# Altium footprint library PCB_Clock_STM8.PcbLib: 21 footprints (part 1 of 2)
Each footprint in its own frame and in the unit in brackets; x right, y up, seen from the top. Pads: shape width x height; smd on the part's side, far side on the other; paste and mask are expansions set on the pad; w line width, h text height; cw(c..) or ccw(c..) is an arc to the next point about the centre after c.
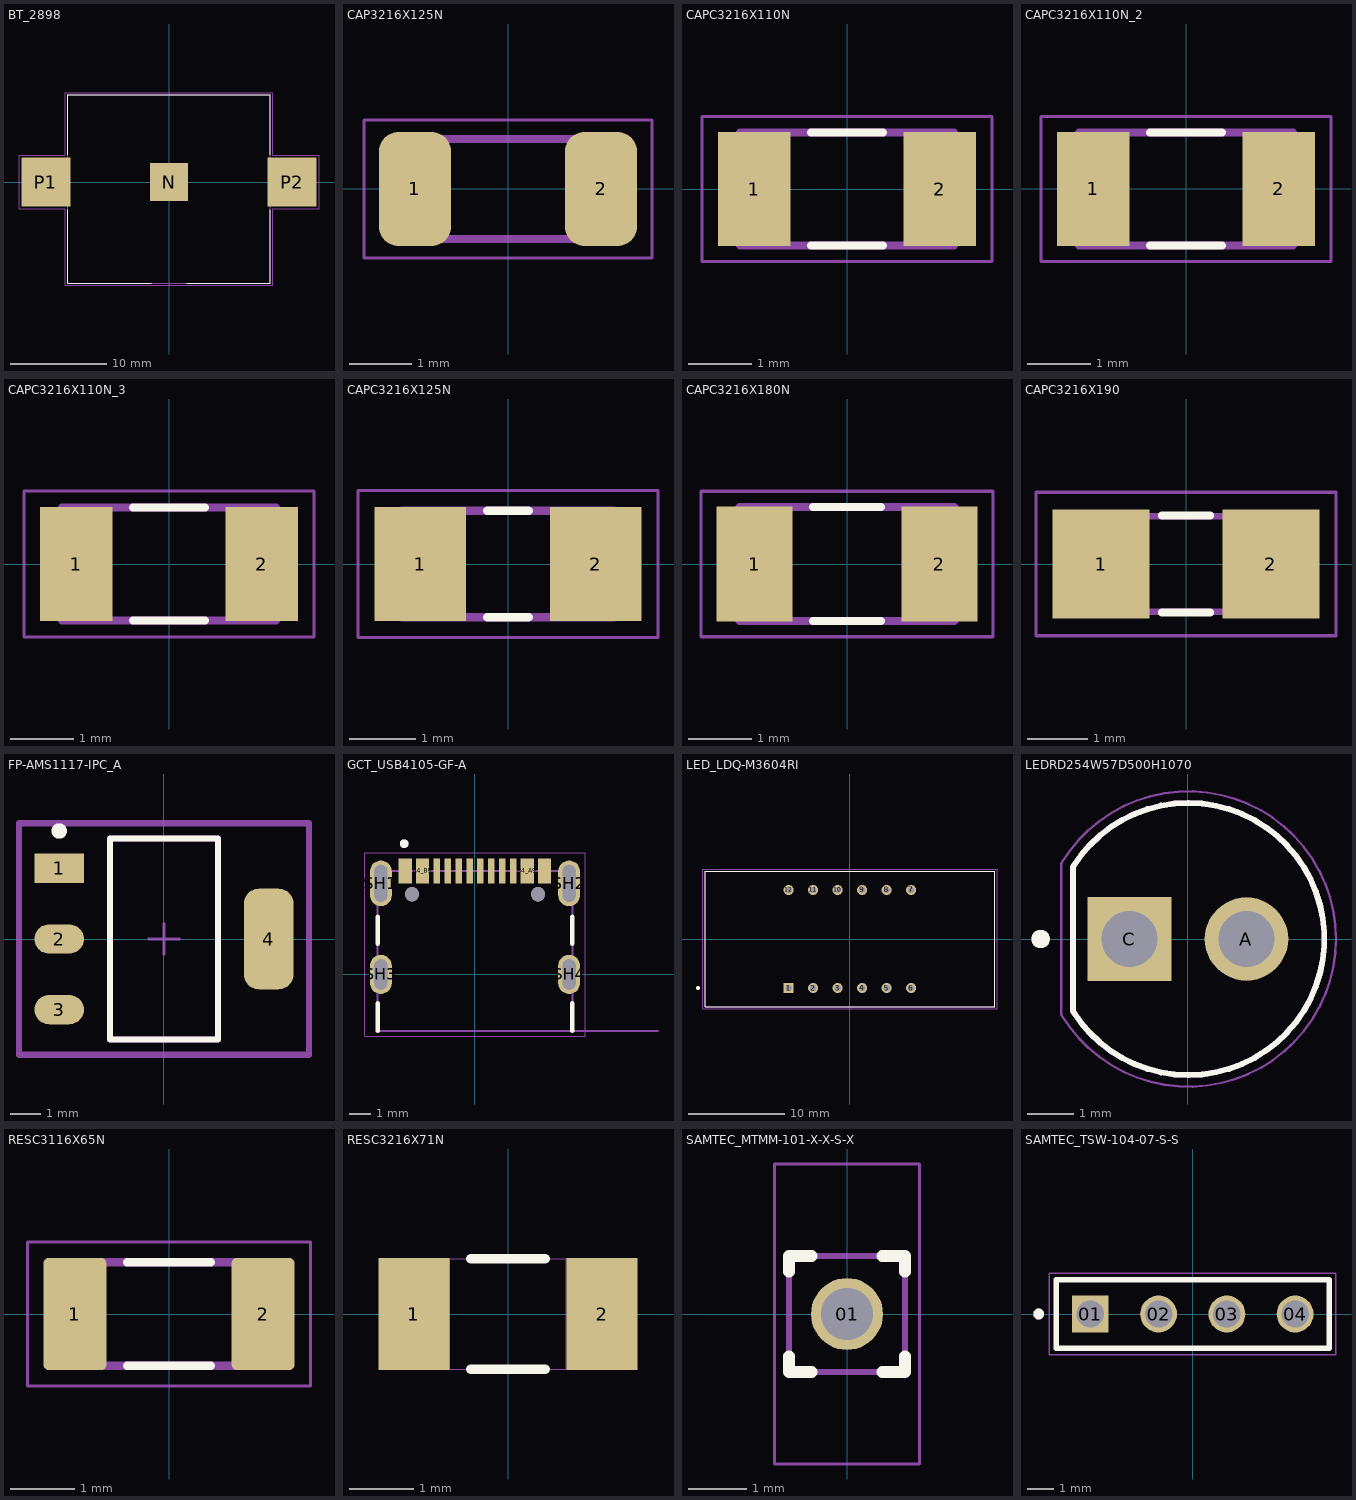
[diagram p0: the footprints below, top view; thin cyan lines are the x and y axes]

## BT_2898 [mm]
pads (3):
  rect 3.96x3.96 smd paste-3: N(0,0)
  rect 5.1x5.1 smd: P1(-12.815,0) P2(12.815,0)
Top Overlay:
  lines w0.127: -10.54,-2.87 -10.54,-10.51 -1.87,-10.51 ; -10.54,2.87 -10.54,9.07 10.54,9.07 10.54,2.87 ; 1.87,-10.51 10.54,-10.51 10.54,-2.87
Mechanical 13:
  lines w0.127: -10.54,-10.51 10.54,-10.51 10.54,9.07 -10.54,9.07 -10.54,-10.51
Mechanical 15:
  lines w0.05: -15.615,-2.8 -15.615,2.8 -10.79,2.8 -10.79,9.32 10.79,9.32 10.79,2.8 15.615,2.8 15.615,-2.8 10.79,-2.8 10.79,-10.76 -10.79,-10.76 -10.79,-2.8 -15.615,-2.8
3D body "2898--3DModel-STEP-630548.STEP": height 3.61, standoff 0.15, extent -15.367,-10.56 15.367,9.017

## CAP3216X125N [mm]
pads (2):
  rrect54% 1.15x1.82 smd: 1(-1.485,0) 2(1.485,0)
Mechanical 13:
  lines w0.127: -1.6,-0.8 -1.6,0.8 1.6,0.8 1.6,-0.8 -1.6,-0.8
Mechanical 15:
  lines w0.05: -2.3,-1.1 -2.3,1.1 2.3,1.1 2.3,-1.1 -2.3,-1.1

## CAPC3216X110N [mm]
pads (2):
  rect 1.16x1.82 smd: 1(-1.475,0) 2(1.475,0)
Top Overlay:
  lines w0.127: -0.57,-0.9 0.57,-0.9 ; -0.57,0.9 0.57,0.9
Mechanical 13:
  lines w0.127: -1.7,-0.9 -1.7,0.9 1.7,0.9 1.7,-0.9 -1.7,-0.9
Mechanical 15:
  lines w0.05: -2.308,-1.15 -2.308,1.15 2.308,1.15 2.308,-1.15 -2.308,-1.15

## CAPC3216X110N_2 [mm]
pads (2):
  rect 1.16x1.82 smd: 1(-1.475,0) 2(1.475,0)
Top Overlay:
  lines w0.127: -0.57,-0.9 0.57,-0.9 ; -0.57,0.9 0.57,0.9
Mechanical 13:
  lines w0.127: -1.7,-0.9 1.7,-0.9 1.7,0.9 -1.7,0.9 -1.7,-0.9
Mechanical 15:
  lines w0.05: -2.308,-1.15 2.308,-1.15 2.308,1.15 -2.308,1.15 -2.308,-1.15

## CAPC3216X110N_3 [mm]
pads (2):
  rect 1.16x1.82 smd: 1(-1.475,0) 2(1.475,0)
Top Overlay:
  lines w0.127: -0.57,-0.9 0.57,-0.9 ; -0.57,0.9 0.57,0.9
Mechanical 13:
  lines w0.127: -1.7,-0.9 -1.7,0.9 1.7,0.9 1.7,-0.9 -1.7,-0.9
Mechanical 15:
  lines w0.05: -2.308,-1.158 -2.308,1.158 2.308,1.158 2.308,-1.158 -2.308,-1.158

## CAPC3216X125N [mm]
pads (2):
  rect 1.38x1.71 smd: 1(-1.318,0) 2(1.318,0)
Top Overlay:
  lines w0.127: -0.31,-0.8 0.31,-0.8 ; -0.31,0.8 0.31,0.8
Mechanical 13:
  lines w0.127: -1.6,-0.8 1.6,-0.8 1.6,0.8 -1.6,0.8 -1.6,-0.8
Mechanical 15:
  lines w0.05: -2.256,-1.106 2.256,-1.106 2.256,1.106 -2.256,1.106 -2.256,-1.106
3D body "step_temp.STEP": height 1.9, standoff 0, extent -1.6,-0.8 1.6,0.8

## CAPC3216X180N [mm]
pads (2):
  rect 1.2x1.82 smd: 1(-1.46,0) 2(1.46,0)
Top Overlay:
  lines w0.127: -0.54,-0.9 0.54,-0.9 ; -0.54,0.9 0.54,0.9
Mechanical 13:
  lines w0.127: -1.7,-0.9 -1.7,0.9 1.7,0.9 1.7,-0.9 -1.7,-0.9
Mechanical 15:
  lines w0.05: -2.308,-1.15 -2.308,1.15 2.308,1.15 2.308,-1.15 -2.308,-1.15
3D body "step_temp.STEP": height 1.8, standoff 0, extent -1.6,-0.8 1.6,0.8

## CAPC3216X190 [mm]
pads (2):
  rect 1.6x1.8 smd: 1(-1.4,0) 2(1.4,0)
Top Overlay:
  lines w0.127: -0.4,-0.8 0.4,-0.8 ; -0.4,0.8 0.4,0.8
Mechanical 13:
  region: 1.702,-0.849 0.952,-0.849 0.952,0.851 1.702,0.851
  region: -0.952,-0.851 -1.702,-0.851 -1.702,0.849 -0.952,0.849
  lines w0.102: -0.965,-0.787 0.965,-0.787 ; -0.965,0.787 0.965,0.787
Mechanical 15:
  lines w0.051: -2.473,-1.183 -2.473,1.183 2.473,1.183 2.473,-1.183 -2.473,-1.183
3D body "GRM31CB31E106KA75L.STEP": height 1.8, standoff 0, extent -1.6,-0.8 1.6,0.8

## FP-AMS1117-IPC_A [mm]
pads (4):
  rect 1.604x0.952 smd paste+0 mask+0: 1(-3.395,2.29)
  rrect100% 1.604x0.952 smd paste+0 mask+0: 2(-3.395,0) 3(-3.395,-2.29)
  rrect59% 1.604x3.262 smd paste+0 mask+0: 4(3.395,0)
Top Overlay:
  circle w0.25: c-3.395,3.5 r0.125
  lines w0.2: -1.752,-3.253 -1.752,3.253 1.752,3.253 1.752,-3.253 -1.752,-3.253
Top 3D Body:
  lines w0.2: -1.752,-3.253 -1.752,3.253 1.752,3.253 1.752,-3.253 -1.752,-3.253
Top Courtyard:
  lines w0.2: -4.697,-3.752 -4.697,3.752 4.697,3.752 4.697,-3.752 -4.697,-3.752
Top Assembly:
  lines w0.2: -4.697,-3.752 -4.697,3.752 4.697,3.752 4.697,-3.752 -4.697,-3.752
  text ".Designator" at 0,0.188 h1
Top Component Center:
  lines w0.1: -0.5,0 0.5,0 ; 0,-0.5 0,0.5
3D body "IC_Advanced_Monolithic_Systems_AMS1117-3_3_eec.STEP": height 0.25, standoff 0, extent -4.697,-3.752 4.697,3.752

## GCT_USB4105-GF-A [mm]
pads (18):
  rect 0.6x1.15 smd mask+0.05: A1_B12(-3.2,4.755) A4_B9(-2.4,4.755) B1_A12(3.2,4.755) B4_A9(2.4,4.755)
  rect 0.3x1.15 smd mask+0.05: A5(-1.25,4.755) A6(-0.25,4.755) A7(0.25,4.755) A8(1.25,4.755) B5(1.75,4.755) B6(0.75,4.755) B7(-0.75,4.755) B8(-1.75,4.755)
  oval 1x2.1 hole 0.6 slot 1.7 at 90 deg: SH1(-4.32,4.18) SH2(4.32,4.18)
  oval 1x1.8 hole 0.6 slot 1.4 at 90 deg: SH3(-4.32,0) SH4(4.32,0)
  round 0.65 hole 0.65 unplated: ""(-2.89,3.68) ""(2.89,3.68)
Top Overlay:
  circle w0.2: c-3.25,6 r0.1
  lines w0.2: -4.47,-2.6 -4.47,-1.32 ; -4.47,1.4 -4.47,2.65 ; 4.47,-2.6 4.47,-1.32 ; 4.47,1.4 4.47,2.65
Mechanical 13:
  circle w0.2: c-3.25,6 r0.1
  lines w0.1: 8.4,-2.6 4.47,-2.6 ; 4.47,-2.6 4.47,4.75 -4.47,4.75 -4.47,-2.6 4.47,-2.6
Mechanical 15:
  lines w0.05: -5.07,-2.85 -5.07,5.58 5.07,5.58 5.07,-2.85 -5.07,-2.85
3D body "USB4105-GF-A--3DModel-STEP-510211.STEP": height 3.31, standoff -1.1, extent -4.47,-2.6 4.47,5.11

## LED_LDQ-M3604RI [mm]
pads (12):
  rect 1.05x1.05 / inner round 1.05 / far side rect 1.05x1.05 hole 0.65: 1(-6.35,-5.08)
  round 1.05 hole 0.65: 2(-3.81,-5.08) 3(-1.27,-5.08) 4(1.27,-5.08) 5(3.81,-5.08) 6(6.35,-5.08) 7(6.35,5.08) 8(3.81,5.08) 9(1.27,5.08) 10(-1.27,5.08) 11(-3.81,5.08) 12(-6.35,5.08)
Top Overlay:
  circle w0.2: c-15.75,-5.08 r0.1
  lines w0.127: -15,-7 15,-7 15,7 -15,7 -15,-7
Mechanical 13:
  circle w0.2: c-15.75,-5.08 r0.1
  lines w0.127: -15,-7 15,-7 15,7 -15,7 -15,-7
Mechanical 15:
  lines w0.05: -15.25,-7.25 15.25,-7.25 15.25,7.25 -15.25,7.25 -15.25,-7.25
3D body "step_temp.STEP": height 7.2, standoff -6.1, extent -15,-7 15,7

## LEDRD254W57D500H1070 [mm]
pads (2):
  round 1.815 hole 1.21: A(1.27,0)
  rect 1.815x1.815 / inner round 1.815 / far side rect 1.815x1.815 hole 1.21: C(-1.27,0)
Top Overlay:
  circle w0.2: c-3.2,0 r0.1
  lines w0.127: -2.5,-1.566 ccw(c0.006,0) -2.5,1.566 -2.5,-1.566
Mechanical 13:
  circle w0.2: c-3.2,0 r0.1
  lines w0.127: -2.5,-1.566 ccw(c0.006,0) -2.5,1.566 -2.5,-1.566
Mechanical 15:
  lines w0.05: -2.75,-1.64 -2.75,1.64 ; -2.743,-1.652 ccw(c0.007,0) -2.743,1.652
3D body "step_temp.STEP": height 9.1, standoff -17.8, extent -2.6,-2.95 2.937,2.95

## RESC3116X65N [mm]
pads (2):
  rrect15% 0.97x1.73 smd: 1(-1.455,0) 2(1.455,0)
Top Overlay:
  lines w0.127: -0.65,-0.8 0.65,-0.8 ; -0.65,0.8 0.65,0.8
Mechanical 13:
  lines w0.127: -1.55,-0.8 -1.55,0.8 1.55,0.8 1.55,-0.8 -1.55,-0.8
Mechanical 15:
  lines w0.05: -2.19,-1.115 2.19,-1.115 2.19,1.115 -2.19,1.115 -2.19,-1.115
3D body "step_temp.STEP": height 0.65, standoff 0, extent -1.55,-0.8 1.55,0.8

## RESC3216X71N [mil]
pads (2):
  rect 44x69 smd: 1(-58,0) 2(58,0)
Top Overlay:
  lines w6: -23,-34 23,-34 ; -23,34 23,34
Mechanical 13:
  lines w0: -36,-34 36,-34 ; -36,-34 -66,-34 -66,34 -36,34 ; -36,-34 -36,34 ; -36,34 36,34 ; 36,-34 66,-34 66,34 36,34 ; 36,-34 36,34
3D body "step_temp.STEP": height 25.59, standoff 0, extent -61.02,-31.5 61.02,31.5

## SAMTEC_MTMM-101-X-X-S-X [mm]
pads (1):
  round 1.24 hole 0.89: 01(0,0)
Top Overlay:
  lines w0.2: -1,-0.73 -1,-1 -0.605,-1 ; -1,0.73 -1,1 -0.605,1 ; 0.605,-1 1,-1 1,-0.73 ; 0.605,1 1,1 1,0.73
Top Paste:
  region: 0.255,0.38 0.815,0.38 0.815,-0.38 0.255,-0.38 0.255,-2.335 -0.255,-2.335 -0.255,-0.38 -0.815,-0.38 -0.815,0.38 -0.255,0.38 -0.255,2.335 0.255,2.335
Mechanical 13:
  lines w0.1: -1,-1 1,-1 1,1 -1,1 -1,-1
Mechanical 15:
  lines w0.05: -1.25,-2.585 1.25,-2.585 1.25,2.585 -1.25,2.585 -1.25,-2.585

## SAMTEC_TSW-104-07-S-S [mm]
pads (4):
  rect 1.37x1.37 hole 1.02: 01(-3.81,0)
  round 1.37 hole 1.02: 02(-1.27,0) 03(1.27,0) 04(3.81,0)
Top Overlay:
  circle w0.2: c-5.73,0 r0.1
  lines w0.2: -5.08,-1.27 -5.08,1.27 5.08,1.27 5.08,-1.27 -5.08,-1.27
Mechanical 13:
  circle w0.2: c-5.73,0 r0.1
  lines w0.1: -5.08,-1.27 -5.08,1.27 ; -5.08,-1.27 5.08,-1.27 ; -5.08,-1.27 -5.08,1.27 ; -5.08,1.27 5.08,1.27 ; -5.08,1.27 5.08,1.27 ; 5.08,-1.27 5.08,1.27 ; 5.08,-1.27 5.08,1.27
Mechanical 15:
  lines w0.05: -5.33,-1.52 -5.33,1.52 5.33,1.52 5.33,-1.52 -5.33,-1.52